# Altium footprint library Connector.PcbLib: 28 footprints (part 1 of 2)
Each footprint in its own frame and in the unit in brackets; x right, y up, seen from the top. Pads: shape width x height; smd on the part's side, far side on the other; paste and mask are expansions set on the pad; w line width, h text height; cw(c..) or ccw(c..) is an arc to the next point about the centre after c.
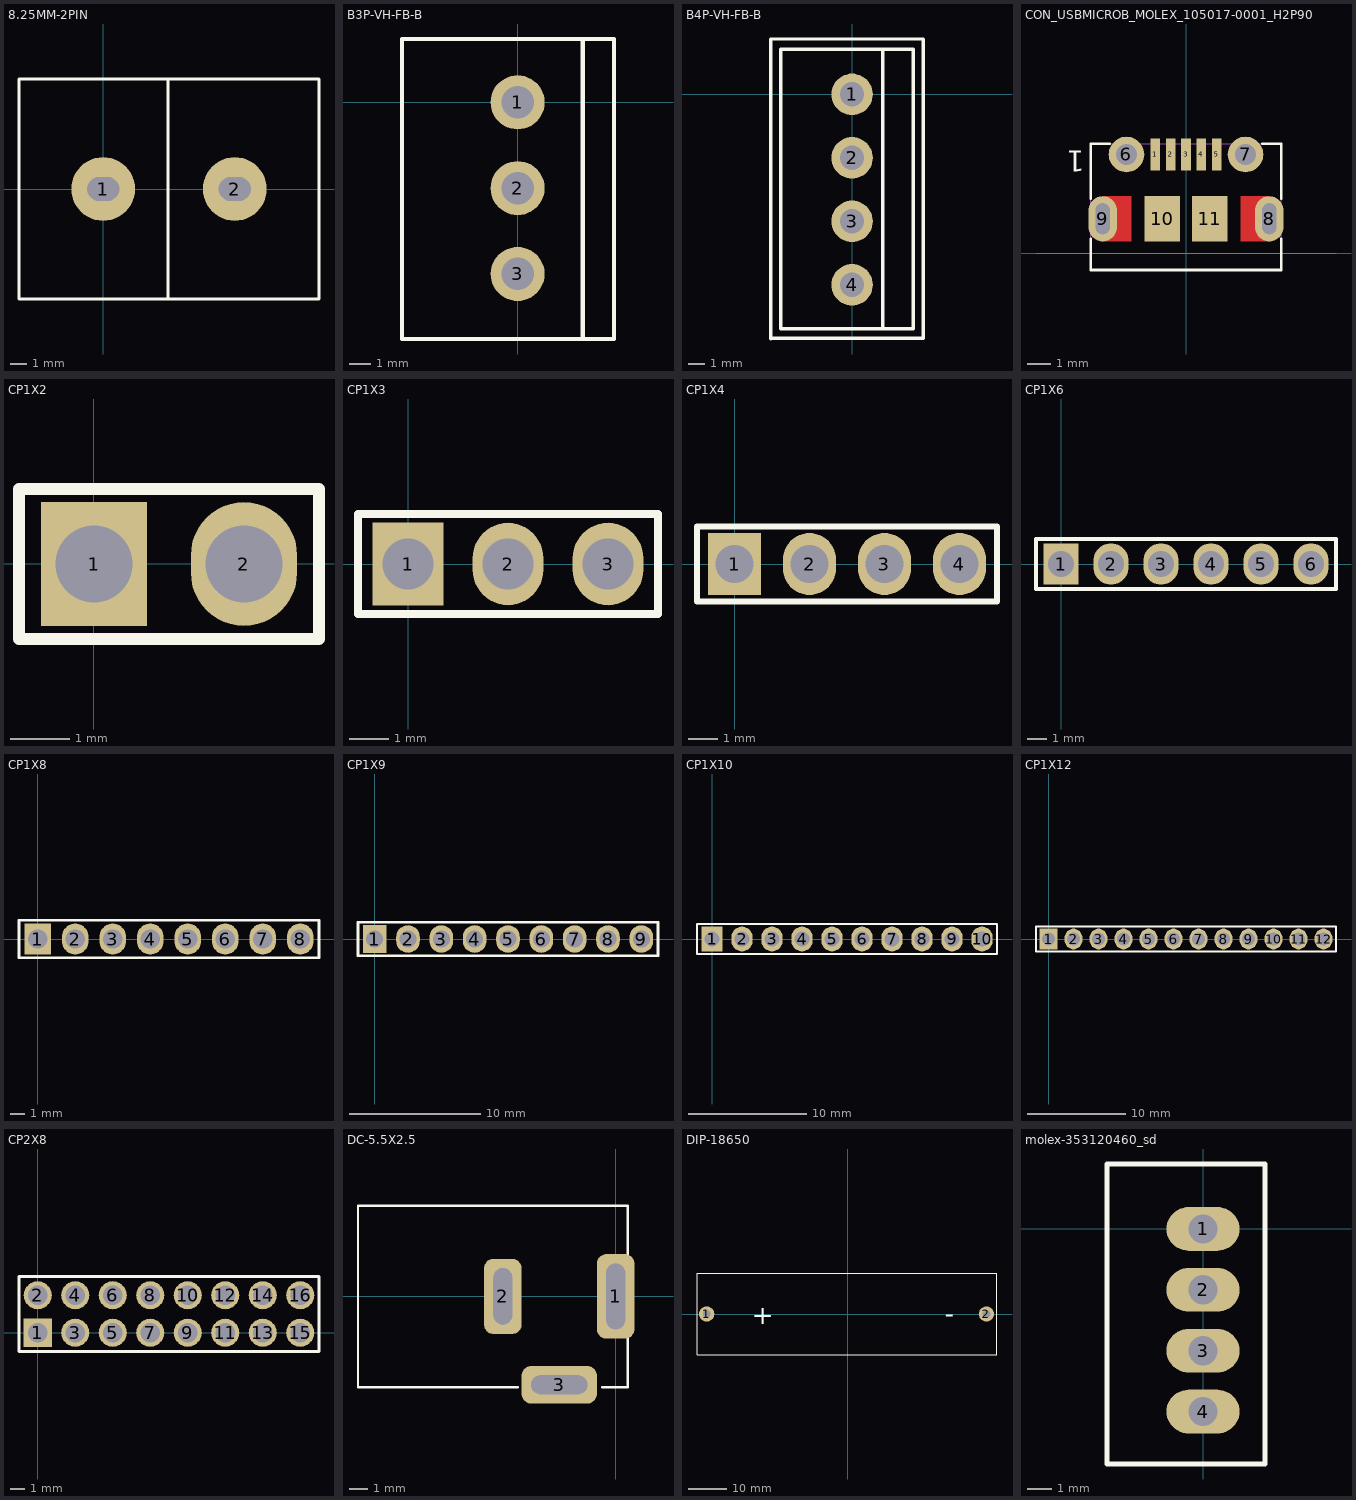
[diagram p0: the footprints below, top view; thin cyan lines are the x and y axes]

## 8.25MM-2PIN [mm]
pads (2):
  round 4 hole 2 slot 1.5 at 90 deg: 1(0,0) 2(8.25,0)
Top Overlay:
  lines w0.2: -5.275,-6.9 13.525,-6.9 ; -5.275,6.9 13.525,6.9
  lines w0.203: -5.275,-6.9 -5.275,6.9 ; 4.064,-6.9 4.064,6.9 ; 13.525,-6.9 13.525,6.9
3D body "c-2-1437667-4-n-3d.stp": height 14.48, standoff -4.06, extent -4.89,-6.223 13.271,6.477

## B3P-VH-FB-B [mm]
pads (3):
  round 2.5 hole 1.5: 1(0,0) 2(0,-3.96) 3(0,-7.92)
Top Overlay:
  lines w0.2: 3,-10.922 3,2.794 ; -5.334,-10.922 -5.334,2.921 4.445,2.921 4.445,-10.922 -5.334,-10.922
3D body "B3P-VH-FB-B.STEP": height 11, standoff -3.7, extent -5.255,-10.84 4.445,2.92

## B4P-VH-FB-B [mm]
pads (4):
  round 2.59 hole 1.511: 1(0,0) 2(0,-3.96) 3(0,-7.92) 4(0,-11.88)
Top Overlay:
  lines w0.203: -5.08,-15.261 -5.08,3.45 4.445,3.45 ; -5.08,-15.219 4.445,-15.219 ; 1.905,-14.626 1.905,2.773 ; 3.81,2.773 3.81,-14.626 -4.445,-14.626 -4.445,2.815 3.81,2.815 ; 4.445,-15.134 4.445,3.408
3D body "B4P-VH-FB-B.STEP": height 11, standoff -3.7, extent -5.358,-14.86 4.342,2.86

## CON_USBMICROB_MOLEX_105017-0001_H2P90 [mm]
pads (11):
  rect 0.4x1.35 smd mask+0.05: 1(-1.3,4.15) 2(-0.65,4.15) 3(0,4.15) 4(0.65,4.15) 5(1.3,4.15)
  round 1.5 hole 0.9 mask+0.05: 6(-2.5,4.15) 7(2.5,4.15)
  oval 1.2x1.9 hole 0.6 slot 1.3 at 90 deg mask+0.05: 8(3.5,1.45) 9(-3.5,1.45)
  rect 1.5x1.9 smd mask+0.05: 10(-1,1.45) 11(1,1.45)
Top Layer:
  region: -3.5,2.4 -2.3,2.4 -2.3,0.5 -3.5,0.5
  region: 2.3,2.4 3.5,2.4 3.5,0.5 2.3,0.5
Top Overlay:
  lines w0.12: -4,0.6 -4,-0.7 4,-0.7 4,0.6 ; -4,2.3 -4,4.6 -3.2,4.6 ; 3.2,4.6 4,4.6 4,2.3
  text "1" at -4.25,4.6 h1.5
Top Solder:
  region: 2.25,2.45 3.5,2.45 3.5,0.45 2.25,0.45
  region: -3.5,2.45 -2.25,2.45 -2.25,0.45 -3.5,0.45
Bottom 3D Body:
  lines w0.01: -4,-0.7 4,-0.7 4,4.6 -4,4.6 -4,-0.7
  text "1" at -1.55,3.55 h1.5
  text "5" at 1,3.55 h1.5
  text "'.Designator'" at 2,2.325 h0.75
Top Component Outline (Mech100):
  lines w0.01: -6.3,0 6.3,0
  text "EDGE" at 4.35,-0.7 h1
  text "PCB" at -6.25,-0.725 h1
3D body "MOLEX_105017-0001.stp": height 2.63, standoff -0.67, extent -4.1,-1.15 4.1,4.25
3D body: height 2.9, standoff 0, extent -3.999,0.001 3.999,4.599
3D body: height 2.9, standoff 0, extent -4.06,-0.76 4.06,4.66

## CP1X2 [mm]
pads (2):
  rect 1.8x2.1 hole 1.3: 1(0,0)
  oval 1.8x2.1 hole 1.3: 2(2.54,0)
Top Overlay:
  lines w0.2: -1.27,-1.27 3.81,-1.27 3.81,1.27 -1.27,1.27 -1.27,-1.27

## CP1X3 [mm]
pads (3):
  rect 1.8x2.1 hole 1.3: 1(0,0)
  oval 1.8x2.1 hole 1.3: 2(2.54,0) 3(5.08,0)
Top Overlay:
  lines w0.2: -1.27,-1.27 6.35,-1.27 6.35,1.27 -1.27,1.27 -1.27,-1.27

## CP1X4 [mm] "Connector; Header; 4 Position"
pads (4):
  rect 1.8x2.1 hole 1.3: 1(0,0)
  oval 1.8x2.1 hole 1.3: 2(2.54,0) 3(5.08,0) 4(7.62,0)
Top Overlay:
  lines w0.2: -1.27,-1.27 8.89,-1.27 8.89,1.27 -1.27,1.27 -1.27,-1.27

## CP1X6 [mm] "Connector; Header; 6 Position"
pads (6):
  rect 1.8x2.1 hole 1.3: 1(0,0)
  oval 1.8x2.1 hole 1.3: 2(2.54,0) 3(5.08,0) 4(7.62,0) 5(10.16,0) 6(12.7,0)
Top Overlay:
  lines w0.2: -1.27,-1.27 -1.27,1.27 13.97,1.27 13.97,-1.27 -1.27,-1.27

## CP1X8 [mm] "Connector; Header; 8 Position"
pads (8):
  rect 1.8x2.1 hole 1.3: 1(0,0)
  oval 1.8x2.1 hole 1.3: 2(2.54,0) 3(5.08,0) 4(7.62,0) 5(10.16,0) 6(12.7,0) 7(15.24,0) 8(17.78,0)
Top Overlay:
  lines w0.2: -1.27,-1.27 19.05,-1.27 19.05,1.27 -1.27,1.27 -1.27,-1.27

## CP1X9 [mm]
pads (9):
  rect 1.8x2.1 hole 1.3: 1(0,0)
  oval 1.8x2.1 hole 1.3: 2(2.54,0) 3(5.08,0) 4(7.62,0) 5(10.16,0) 6(12.7,0) 7(15.24,0) 8(17.78,0) 9(20.32,0)
Top Overlay:
  lines w0.2: -1.27,-1.27 -1.27,1.27 21.59,1.27 21.59,-1.27 -1.27,-1.27

## CP1X10 [mm]
pads (10):
  rect 1.8x2.1 hole 1.3: 1(0,0)
  oval 1.8x2.1 hole 1.3: 2(2.54,0) 3(5.08,0) 4(7.62,0) 5(10.16,0) 6(12.7,0) 7(15.24,0) 8(17.78,0) 9(20.32,0) 10(22.86,0)
Top Overlay:
  lines w0.2: -1.27,-1.27 -1.27,1.27 0.635,1.27 24.13,1.27 24.13,-1.27 -1.27,-1.27

## CP1X12 [mm] "Connector; Header; 12 Position"
pads (12):
  rect 1.8x2.1 hole 1.3: 1(0,0)
  oval 1.8x2.1 hole 1.3: 2(2.54,0) 3(5.08,0) 4(7.62,0) 5(10.16,0) 6(12.7,0) 7(15.24,0) 8(17.78,0) 9(20.32,0) 10(22.86,0) 11(25.4,0) 12(27.94,0)
Top Overlay:
  lines w0.2: -1.27,-1.27 29.21,-1.27 29.21,1.27 0.635,1.27 -1.27,1.27 -1.27,-1.27

## CP2X8 [mm] "Connector; Header; 8x2 Position"
pads (16):
  rect 1.9x1.9 hole 1.3: 1(0,0)
  round 1.9 hole 1.3: 2(0,2.54) 3(2.54,0) 4(2.54,2.54) 5(5.08,0) 6(5.08,2.54) 7(7.62,0) 8(7.62,2.54) 9(10.16,0) 10(10.16,2.54) 11(12.7,0) 12(12.7,2.54) 13(15.24,0) 14(15.24,2.54) 15(17.78,0) 16(17.78,2.54)
Top Overlay:
  lines w0.2: -1.27,-1.27 19.05,-1.27 19.05,3.81 -1.27,3.81 -1.27,-1.27

## DC-5.5X2.5 [mm]
pads (3):
  rrect50% 2x4.5 hole 1 slot 3.5 at 90 deg unplated mask+0: 1(0,0)
  rrect50% 2x4 hole 1 slot 3 at 90 deg unplated mask+0: 2(-6,0)
  rrect50% 4x2 hole 1 slot 3 at 0 deg unplated mask+0: 3(-3,-4.7)
Top Overlay:
  lines w0.127: -5.207,-4.826 -13.7,-4.826 -13.7,4.826 0.635,4.826 0.635,-4.826 -0.707,-4.826
3D body "dc-005z-2_5a-2_5.stp": height 11.5, standoff -3, extent -13.754,-4.699 0.546,4.751

## DIP-18650 [mm]
pads (2):
  round 4 hole 2 unplated: 1(-36.5,0) 2(36,0)
Top Overlay:
  lines w0.127: -39,-10.5 38.735,-10.5 38.735,10.5 -39,10.5 -39,-10.5
  text "-" at 25.2,-2.299 h5
  text "+" at -24.8,-2.633 h5
3D body "User Library-Akumulator 18650.STEP": height 19.1, standoff 0.9, extent -32.512,-9.481 32.388,8.719
3D body "User Library-18650 Full.STEP": height 21.65, standoff -3.83, extent -39.042,-10.414 38.608,10.386

## molex-353120460_sd [mm]
pads (4):
  oval 3x1.8 hole 1.2: 1(0,0) 2(0,-2.5) 3(0,-5) 4(0,-7.5)
Top Overlay:
  lines w0.2: -3.937,-9.652 2.54,-9.652 2.54,2.667 -3.937,2.667 -3.937,-9.652
3D body "353120460.stp": height 6, standoff -4.4, extent -3.95,-9.73 2.55,2.73